# Altium schematic symbol library Actel IGLOOnano FPGA.SchLib: 440 symbols (part 3 of 3)
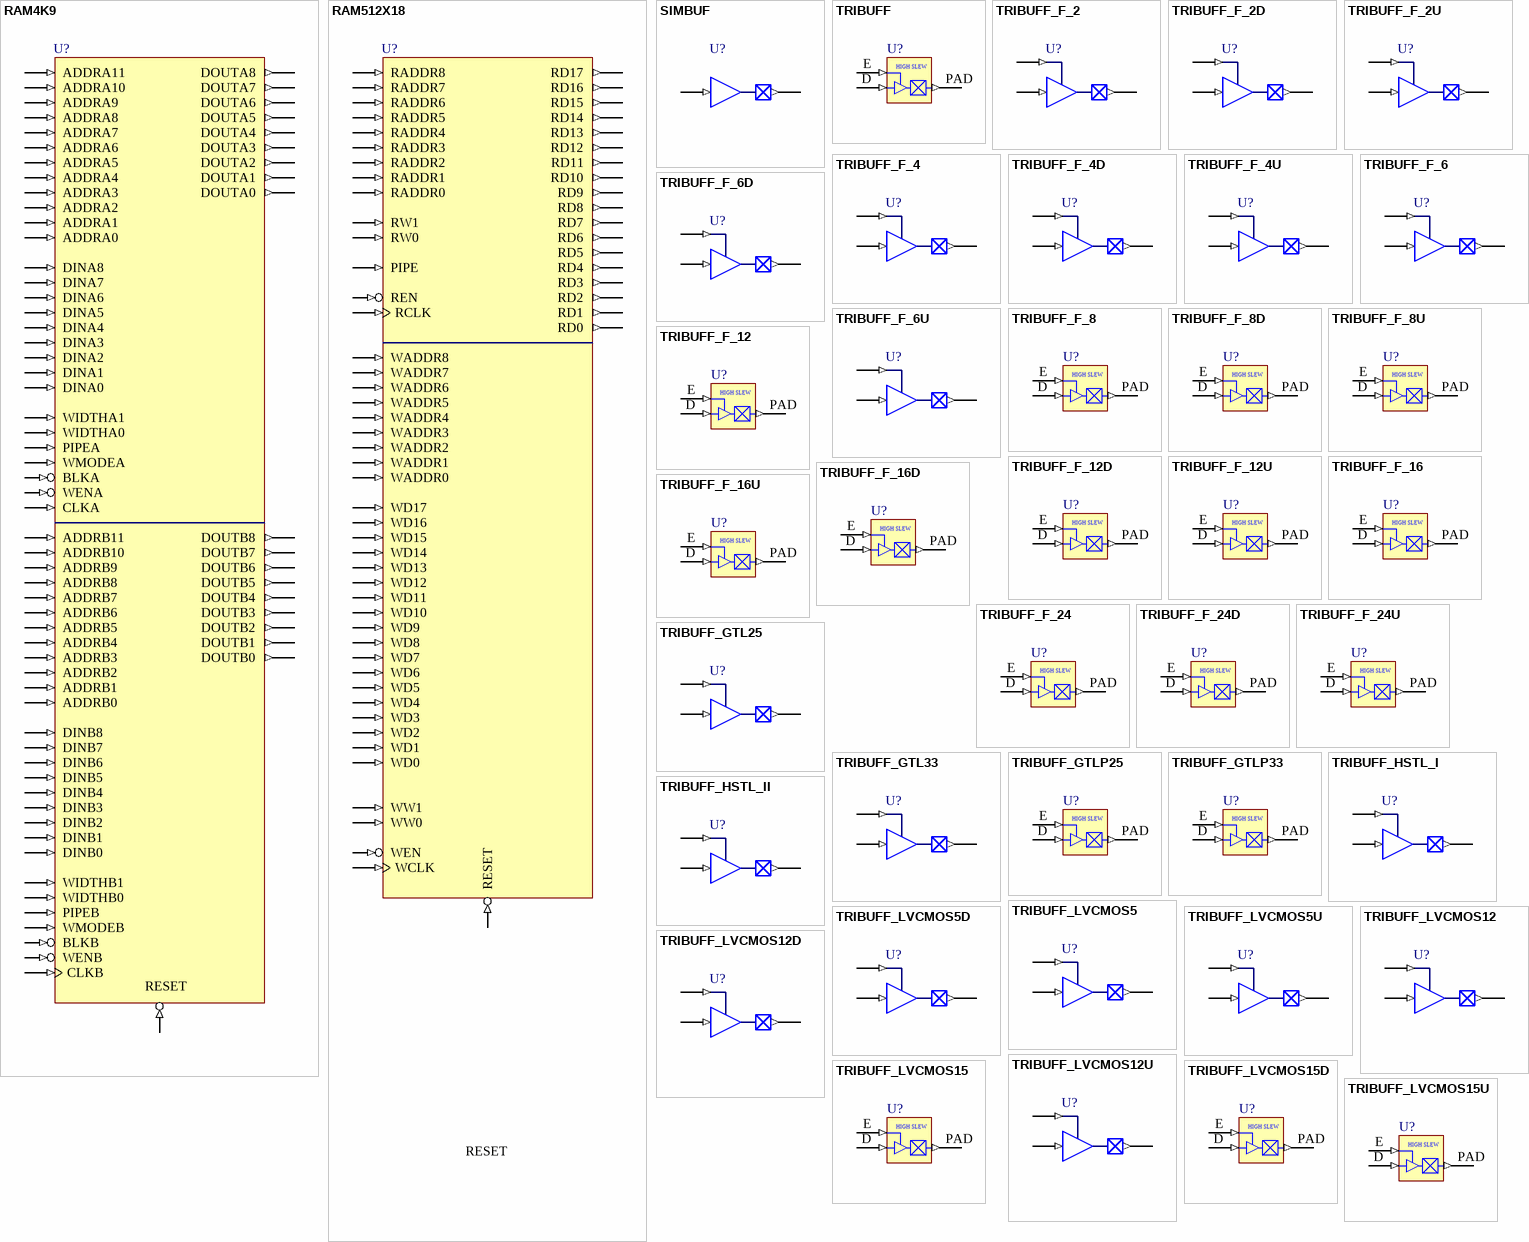
[diagram p13: symbols RAM4K9 to TRIBUFF_LVCMOS15U]

## RAM512X18
designator U?
RAM512X18 is a fully synchronous, two-port RAM with an optional pipeline stage; FPGAVendor: Actel; Published: 25-Oct-2005; Publisher: Altium Limited; HelpURL: http://www.actel.com/documents/pa3_libguide_ug.pdf
pins: PIPE (in), RADDR0 (in), RADDR1 (in), RADDR2 (in), RADDR3 (in), RADDR4 (in), RADDR5 (in), RADDR6 (in), RADDR7 (in), RADDR8 (in), RCLK (in), RD0 (out), RD1 (out), RD2 (out), RD3 (out), RD4 (out), RD5 (out), RD6 (out), RD7 (out), RD8 (out), RD9 (out), RD10 (out), RD11 (out), RD12 (out), RD13 (out), RD14 (out), RD15 (out), RD16 (out), RD17 (out), REN (in), RESET (in), RW0 (in), RW1 (in), WADDR0 (in), WADDR1 (in), WADDR2 (in), WADDR3 (in), WADDR4 (in), WADDR5 (in), WADDR6 (in), WADDR7 (in), WADDR8 (in), WCLK (in), WD0 (in), WD1 (in), WD2 (in), WD3 (in), WD4 (in), WD5 (in), WD6 (in), WD7 (in), WD8 (in), WD9 (in), WD10 (in), WD11 (in), WD12 (in), WD13 (in), WD14 (in), WD15 (in), WD16 (in), WD17 (in), WEN (in), WW0 (in), WW1 (in)

## SIMBUF
designator U?
VIRTUAL I/O; FPGAVendor: Actel; Published: 7-Sep-2009; Publisher: Altium Limited; HelpURL: http://www.actel.com/documents/pa3_libguide_ug.pdf
pins: D (in), PAD (out)

## TRIBUFF
designator U?
Tristate Output, High Slew; FPGAVendor: Actel; Published: 28-Jan-2003; LatestRevisionNote: 5/09/2003; DatasheetVersion: Jun-2002; Publisher: Altium Limited; HelpURL: http://www.actel.com/documents/pa3_libguide_ug.pdf
pins: D (in), E (in), PAD (out)
text: HIGH SLEW

## TRIBUFF_F_2
designator U?
Tri-state output with high slew; FPGAVendor: Actel; Published: 25-Oct-2005; Publisher: Altium Limited; HelpURL: http://www.actel.com/documents/pa3_libguide_ug.pdf
pins: D (in), E (in), PAD (out)

## TRIBUFF_F_2D
designator U?
Tri-state output with high slew; FPGAVendor: Actel; Published: 25-Oct-2005; Publisher: Altium Limited; HelpURL: http://www.actel.com/documents/pa3_libguide_ug.pdf
pins: D (in), E (in), PAD (out)

## TRIBUFF_F_2U
designator U?
Tri-state output with high slew; FPGAVendor: Actel; Published: 25-Oct-2005; Publisher: Altium Limited; HelpURL: http://www.actel.com/documents/pa3_libguide_ug.pdf
pins: D (in), E (in), PAD (out)

## TRIBUFF_F_4
designator U?
Tri-state output with high slew; FPGAVendor: Actel; Published: 25-Oct-2005; Publisher: Altium Limited; HelpURL: http://www.actel.com/documents/pa3_libguide_ug.pdf
pins: D (in), E (in), PAD (out)

## TRIBUFF_F_4D
designator U?
Tri-state output with high slew; FPGAVendor: Actel; Published: 25-Oct-2005; Publisher: Altium Limited; HelpURL: http://www.actel.com/documents/pa3_libguide_ug.pdf
pins: D (in), E (in), PAD (out)

## TRIBUFF_F_4U
designator U?
Tri-state output with high slew; FPGAVendor: Actel; Published: 25-Oct-2005; Publisher: Altium Limited; HelpURL: http://www.actel.com/documents/pa3_libguide_ug.pdf
pins: D (in), E (in), PAD (out)

## TRIBUFF_F_6
designator U?
Tri-state output with high slew; FPGAVendor: Actel; Published: 25-Oct-2005; Publisher: Altium Limited; HelpURL: http://www.actel.com/documents/pa3_libguide_ug.pdf
pins: D (in), E (in), PAD (out)

## TRIBUFF_F_6D
designator U?
Tri-state output with high slew; FPGAVendor: Actel; Published: 25-Oct-2005; Publisher: Altium Limited; HelpURL: http://www.actel.com/documents/pa3_libguide_ug.pdf
pins: D (in), E (in), PAD (out)

## TRIBUFF_F_6U
designator U?
Tri-state output with high slew; FPGAVendor: Actel; Published: 25-Oct-2005; Publisher: Altium Limited; HelpURL: http://www.actel.com/documents/pa3_libguide_ug.pdf
pins: D (in), E (in), PAD (out)

## TRIBUFF_F_8
designator U?
Tristate output with high slew and 1x drive strength; FPGAVendor: Actel; Published: 28-Jan-2003; LatestRevisionNote: 5/09/2003; DatasheetVersion: Jun-2002; Publisher: Altium Limited; HelpURL: http://www.actel.com/documents/pa3_libguide_ug.pdf
pins: D (in), E (in), PAD (out)
text: HIGH SLEW

## TRIBUFF_F_8D
designator U?
Tristate output with high slew and 1x drive strength, pull-down resistor; FPGAVendor: Actel; Published: 28-Jan-2003; LatestRevisionNote: 5/09/2003; DatasheetVersion: Jun-2002; Publisher: Altium Limited; HelpURL: http://www.actel.com/documents/pa3_libguide_ug.pdf
pins: D (in), E (in), PAD (out)
text: HIGH SLEW

## TRIBUFF_F_8U
designator U?
Tristate output with high slew and 1x drive strength, pull-up resistor; FPGAVendor: Actel; Published: 28-Jan-2003; LatestRevisionNote: 5/09/2003; DatasheetVersion: Jun-2002; Publisher: Altium Limited; HelpURL: http://www.actel.com/documents/pa3_libguide_ug.pdf
pins: D (in), E (in), PAD (out)
text: HIGH SLEW

## TRIBUFF_F_12
designator U?
Tristate output with high slew and 2x drive strength; FPGAVendor: Actel; Published: 28-Jan-2003; LatestRevisionNote: 5/09/2003; DatasheetVersion: Jun-2002; Publisher: Altium Limited; HelpURL: http://www.actel.com/documents/pa3_libguide_ug.pdf
pins: D (in), E (in), PAD (out)
text: HIGH SLEW

## TRIBUFF_F_12D
designator U?
Tristate output with high slew and 2x drive strength, pull-down resistor; FPGAVendor: Actel; Published: 28-Jan-2003; LatestRevisionNote: 5/09/2003; DatasheetVersion: Jun-2002; Publisher: Altium Limited; HelpURL: http://www.actel.com/documents/pa3_libguide_ug.pdf
pins: D (in), E (in), PAD (out)
text: HIGH SLEW

## TRIBUFF_F_12U
designator U?
Tristate output with high slew and 2x drive strength, pull-up resistor; FPGAVendor: Actel; Published: 28-Jan-2003; LatestRevisionNote: 5/09/2003; DatasheetVersion: Jun-2002; Publisher: Altium Limited; HelpURL: http://www.actel.com/documents/pa3_libguide_ug.pdf
pins: D (in), E (in), PAD (out)
text: HIGH SLEW

## TRIBUFF_F_16
designator U?
Tristate output with high slew and 3x drive strength; FPGAVendor: Actel; Published: 28-Jan-2003; LatestRevisionNote: 5/09/2003; DatasheetVersion: Jun-2002; Publisher: Altium Limited; HelpURL: http://www.actel.com/documents/pa3_libguide_ug.pdf
pins: D (in), E (in), PAD (out)
text: HIGH SLEW

## TRIBUFF_F_16D
designator U?
Tristate output with high slew and 3x drive strength, pull-down resistor; FPGAVendor: Actel; Published: 28-Jan-2003; LatestRevisionNote: 5/09/2003; DatasheetVersion: Jun-2002; Publisher: Altium Limited; HelpURL: http://www.actel.com/documents/pa3_libguide_ug.pdf
pins: D (in), E (in), PAD (out)
text: HIGH SLEW

## TRIBUFF_F_16U
designator U?
Tristate output with high slew and 3x drive strength, pull-up resistor; FPGAVendor: Actel; Published: 28-Jan-2003; LatestRevisionNote: 5/09/2003; DatasheetVersion: Jun-2002; Publisher: Altium Limited; HelpURL: http://www.actel.com/documents/pa3_libguide_ug.pdf
pins: D (in), E (in), PAD (out)
text: HIGH SLEW

## TRIBUFF_F_24
designator U?
Tristate output with high slew and 4x drive strength; FPGAVendor: Actel; Published: 28-Jan-2003; LatestRevisionNote: 5/09/2003; DatasheetVersion: Jun-2002; Publisher: Altium Limited; HelpURL: http://www.actel.com/documents/pa3_libguide_ug.pdf
pins: D (in), E (in), PAD (out)
text: HIGH SLEW

## TRIBUFF_F_24D
designator U?
Tristate output with high slew and 4x drive strength, pull-down resistor; FPGAVendor: Actel; Published: 28-Jan-2003; LatestRevisionNote: 5/09/2003; DatasheetVersion: Jun-2002; Publisher: Altium Limited; HelpURL: http://www.actel.com/documents/pa3_libguide_ug.pdf
pins: D (in), E (in), PAD (out)
text: HIGH SLEW

## TRIBUFF_F_24U
designator U?
Tristate output with high slew and 4x drive strength, pull-up resistor; FPGAVendor: Actel; Published: 28-Jan-2003; LatestRevisionNote: 5/09/2003; DatasheetVersion: Jun-2002; Publisher: Altium Limited; HelpURL: http://www.actel.com/documents/pa3_libguide_ug.pdf
pins: D (in), E (in), PAD (out)
text: HIGH SLEW

## TRIBUFF_GTL25
designator U?
GTLP tri-state output buffer with 2.5 CMOS voltage level; FPGAVendor: Actel; Published: 7-Sep-2009; Publisher: Altium Limited; HelpURL: http://www.actel.com/documents/pa3_libguide_ug.pdf
pins: D (in), E (in), PAD (out)

## TRIBUFF_GTL33
designator U?
GTLP tri-state output buffer with 3.3 CMOS voltage level; FPGAVendor: Actel; Published: 7-Sep-2009; Publisher: Altium Limited; HelpURL: http://www.actel.com/documents/pa3_libguide_ug.pdf
pins: D (in), E (in), PAD (out)

## TRIBUFF_GTLP25
designator U?
GTLP Tristate output with 2.5 CMOS voltage level; FPGAVendor: Actel; Published: 28-Jan-2003; LatestRevisionNote: 5/09/2003; DatasheetVersion: Jun-2002; Publisher: Altium Limited; HelpURL: http://www.actel.com/documents/pa3_libguide_ug.pdf
pins: D (in), E (in), PAD (out)
text: HIGH SLEW

## TRIBUFF_GTLP33
designator U?
GTLP Tristate output with 3.3 CMOS voltage level; FPGAVendor: Actel; Published: 28-Jan-2003; LatestRevisionNote: 5/09/2003; DatasheetVersion: Jun-2002; Publisher: Altium Limited; HelpURL: http://www.actel.com/documents/pa3_libguide_ug.pdf
pins: D (in), E (in), PAD (out)
text: HIGH SLEW

## TRIBUFF_HSTL_I
designator U?
HSTL class I tri-state output buffer; FPGAVendor: Actel; Published: 7-Sep-2009; Publisher: Altium Limited; HelpURL: http://www.actel.com/documents/pa3_libguide_ug.pdf
pins: D (in), E (in), PAD (out)

## TRIBUFF_HSTL_II
designator U?
HSTL class II tri-state output buffer; FPGAVendor: Actel; Published: 7-Sep-2009; Publisher: Altium Limited; HelpURL: http://www.actel.com/documents/pa3_libguide_ug.pdf
pins: D (in), E (in), PAD (out)

## TRIBUFF_LVCMOS5
designator U?
LVCMOS5 Tri-State Output with 5.0 Voltage Level; FPGAVendor: Actel; Published: 25-Oct-2005; Publisher: Altium Limited; HelpURL: http://www.actel.com/documents/pa3_libguide_ug.pdf
pins: D (in), E (in), PAD (out)

## TRIBUFF_LVCMOS5D
designator U?
LVCMOS5 Tri-State Output with 5.0 Voltage Level, Pull-Down Resistor; FPGAVendor: Actel; Published: 25-Oct-2005; Publisher: Altium Limited; HelpURL: http://www.actel.com/documents/pa3_libguide_ug.pdf
pins: D (in), E (in), PAD (out)

## TRIBUFF_LVCMOS5U
designator U?
LVCMOS5 Tri-State Output with 1.8 Voltage Level, Pull-Up Resistor; FPGAVendor: Actel; Published: 25-Oct-2005; Publisher: Altium Limited; HelpURL: http://www.actel.com/documents/pa3_libguide_ug.pdf
pins: D (in), E (in), PAD (out)

## TRIBUFF_LVCMOS12
designator U?
LVCMOS12 Tri-State Buffer; FPGAVendor: Actel; Published: 7-Sep-2009; Publisher: Altium Limited; HelpURL: http://www.actel.com/documents/pa3_libguide_ug.pdf
pins: D (in), E (in), PAD (out)

## TRIBUFF_LVCMOS12D
designator U?
LVCMOS12D Tri-State Buffer; FPGAVendor: Actel; Published: 7-Sep-2009; Publisher: Altium Limited; HelpURL: http://www.actel.com/documents/pa3_libguide_ug.pdf
pins: D (in), E (in), PAD (out)

## TRIBUFF_LVCMOS12U
designator U?
LVCMOS12U Tri-State Buffer; FPGAVendor: Actel; Published: 7-Sep-2009; Publisher: Altium Limited; HelpURL: http://www.actel.com/documents/pa3_libguide_ug.pdf
pins: D (in), E (in), PAD (out)

## TRIBUFF_LVCMOS15
designator U?
LVCMOS Tristate output with 1.5 CMOS voltage level; FPGAVendor: Actel; Published: 28-Jan-2003; LatestRevisionNote: 5/09/2003; DatasheetVersion: Jun-2002; Publisher: Altium Limited; HelpURL: http://www.actel.com/documents/pa3_libguide_ug.pdf
pins: D (in), E (in), PAD (out)
text: HIGH SLEW

## TRIBUFF_LVCMOS15D
designator U?
LVCMOS Tristate output with 1.5 CMOS voltage level, pull-down resistor; FPGAVendor: Actel; Published: 28-Jan-2003; LatestRevisionNote: 5/09/2003; DatasheetVersion: Jun-2002; Publisher: Altium Limited; HelpURL: http://www.actel.com/documents/pa3_libguide_ug.pdf
pins: D (in), E (in), PAD (out)
text: HIGH SLEW

## TRIBUFF_LVCMOS15U
designator U?
LVCMOS Tristate output with 1.5 CMOS voltage level, pull-up resistor; FPGAVendor: Actel; Published: 28-Jan-2003; LatestRevisionNote: 5/09/2003; DatasheetVersion: Jun-2002; Publisher: Altium Limited; HelpURL: http://www.actel.com/documents/pa3_libguide_ug.pdf
pins: D (in), E (in), PAD (out)
text: HIGH SLEW

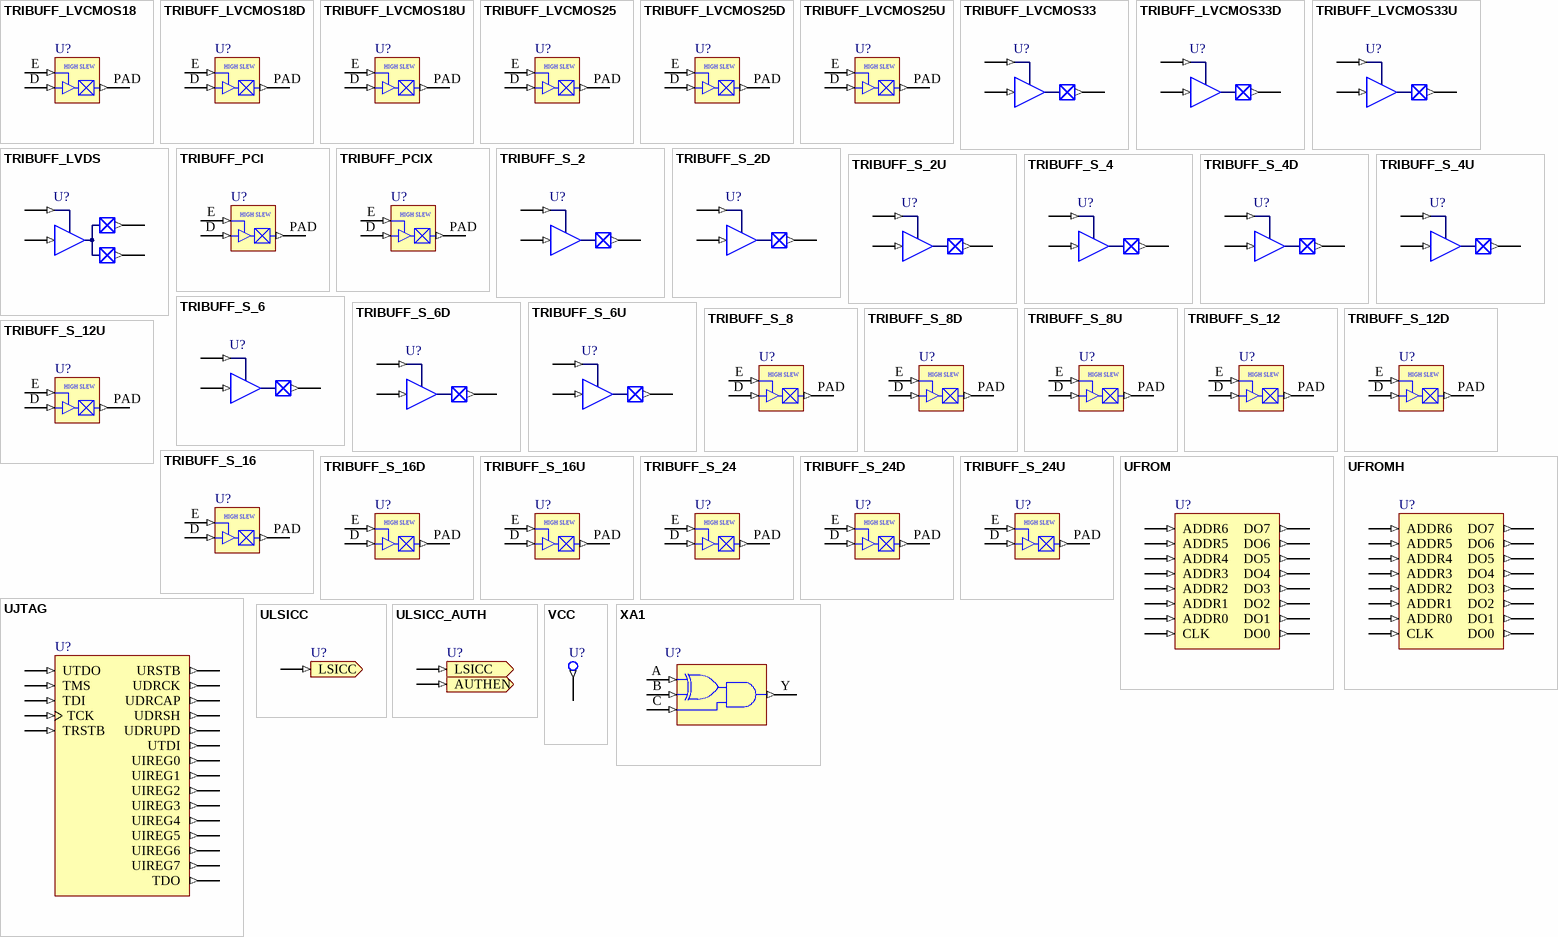
[diagram p10: symbols TRIBUFF_LVCMOS18 to XA1]

## TRIBUFF_LVCMOS18
designator U?
LVCMOS Tristate output with 1.8 CMOS voltage level; FPGAVendor: Actel; Published: 28-Jan-2003; LatestRevisionNote: 5/09/2003; DatasheetVersion: Jun-2002; Publisher: Altium Limited; HelpURL: http://www.actel.com/documents/pa3_libguide_ug.pdf
pins: D (in), E (in), PAD (out)
text: HIGH SLEW

## TRIBUFF_LVCMOS18D
designator U?
LVCMOS Tristate output with 1.8 CMOS voltage level, pull-down resistor; FPGAVendor: Actel; Published: 28-Jan-2003; LatestRevisionNote: 5/09/2003; DatasheetVersion: Jun-2002; Publisher: Altium Limited; HelpURL: http://www.actel.com/documents/pa3_libguide_ug.pdf
pins: D (in), E (in), PAD (out)
text: HIGH SLEW

## TRIBUFF_LVCMOS18U
designator U?
LVCMOS Tristate output with 1.8 CMOS voltage level, pull-up resistor; FPGAVendor: Actel; Published: 28-Jan-2003; LatestRevisionNote: 5/09/2003; DatasheetVersion: Jun-2002; Publisher: Altium Limited; HelpURL: http://www.actel.com/documents/pa3_libguide_ug.pdf
pins: D (in), E (in), PAD (out)
text: HIGH SLEW

## TRIBUFF_LVCMOS25
designator U?
LVCMOS Tristate output with 2.5 CMOS voltage level; FPGAVendor: Actel; Published: 28-Jan-2003; LatestRevisionNote: 5/09/2003; DatasheetVersion: Jun-2002; Publisher: Altium Limited; HelpURL: http://www.actel.com/documents/pa3_libguide_ug.pdf
pins: D (in), E (in), PAD (out)
text: HIGH SLEW

## TRIBUFF_LVCMOS25D
designator U?
LVCMOS Tristate output with 2.5 CMOS voltage level, pull-down resistor; FPGAVendor: Actel; Published: 28-Jan-2003; LatestRevisionNote: 5/09/2003; DatasheetVersion: Jun-2002; Publisher: Altium Limited; HelpURL: http://www.actel.com/documents/pa3_libguide_ug.pdf
pins: D (in), E (in), PAD (out)
text: HIGH SLEW

## TRIBUFF_LVCMOS25U
designator U?
LVCMOS Tristate output with 2.5 CMOS voltage level, pull-up resistor; FPGAVendor: Actel; Published: 28-Jan-2003; LatestRevisionNote: 5/09/2003; DatasheetVersion: Jun-2002; Publisher: Altium Limited; HelpURL: http://www.actel.com/documents/pa3_libguide_ug.pdf
pins: D (in), E (in), PAD (out)
text: HIGH SLEW

## TRIBUFF_LVCMOS33
designator U?
LVCMOS33 Tri-State Output with 1.8 Voltage Level; FPGAVendor: Actel; Published: 25-Oct-2005; Publisher: Altium Limited; HelpURL: http://www.actel.com/documents/pa3_libguide_ug.pdf
pins: D (in), E (in), PAD (out)

## TRIBUFF_LVCMOS33D
designator U?
LVCMOS33 Tri-State Output with 1.8 Voltage Level, Pull-Down Resistor; FPGAVendor: Actel; Published: 25-Oct-2005; Publisher: Altium Limited; HelpURL: http://www.actel.com/documents/pa3_libguide_ug.pdf
pins: D (in), E (in), PAD (out)

## TRIBUFF_LVCMOS33U
designator U?
LVCMOS33 Tri-State Output with 1.8 Voltage Level, Pull-Up Resistor; FPGAVendor: Actel; Published: 25-Oct-2005; Publisher: Altium Limited; HelpURL: http://www.actel.com/documents/pa3_libguide_ug.pdf
pins: D (in), E (in), PAD (out)

## TRIBUFF_LVDS
designator U?
LVDS Tri-State Buffer; FPGAVendor: Actel; Published: 7-Sep-2009; Publisher: Altium Limited; HelpURL: http://www.actel.com/documents/pa3_libguide_ug.pdf
pins: D (in), E (in), PADN (out), PADP (out)

## TRIBUFF_PCI
designator U?
PCI Tristate output; FPGAVendor: Actel; Published: 28-Jan-2003; LatestRevisionNote: 5/09/2003; DatasheetVersion: Jun-2002; Publisher: Altium Limited; HelpURL: http://www.actel.com/documents/pa3_libguide_ug.pdf
pins: D (in), E (in), PAD (out)
text: HIGH SLEW

## TRIBUFF_PCIX
designator U?
PCIX Tristate output; FPGAVendor: Actel; Published: 28-Jan-2003; LatestRevisionNote: 5/09/2003; DatasheetVersion: Jun-2002; Publisher: Altium Limited; HelpURL: http://www.actel.com/documents/pa3_libguide_ug.pdf
pins: D (in), E (in), PAD (out)
text: HIGH SLEW

## TRIBUFF_S_2
designator U?
Tri-state output with low slew; FPGAVendor: Actel; Published: 25-Oct-2005; Publisher: Altium Limited; HelpURL: http://www.actel.com/documents/pa3_libguide_ug.pdf
pins: D (in), E (in), PAD (out)

## TRIBUFF_S_2D
designator U?
Tri-state output with low slew; FPGAVendor: Actel; Published: 25-Oct-2005; Publisher: Altium Limited; HelpURL: http://www.actel.com/documents/pa3_libguide_ug.pdf
pins: D (in), E (in), PAD (out)

## TRIBUFF_S_2U
designator U?
Tri-state output with low slew; FPGAVendor: Actel; Published: 25-Oct-2005; Publisher: Altium Limited; HelpURL: http://www.actel.com/documents/pa3_libguide_ug.pdf
pins: D (in), E (in), PAD (out)

## TRIBUFF_S_4
designator U?
Tri-state output with low slew; FPGAVendor: Actel; Published: 25-Oct-2005; Publisher: Altium Limited; HelpURL: http://www.actel.com/documents/pa3_libguide_ug.pdf
pins: D (in), E (in), PAD (out)

## TRIBUFF_S_4D
designator U?
Tri-state output with low slew; FPGAVendor: Actel; Published: 25-Oct-2005; Publisher: Altium Limited; HelpURL: http://www.actel.com/documents/pa3_libguide_ug.pdf
pins: D (in), E (in), PAD (out)

## TRIBUFF_S_4U
designator U?
Tri-state output with low slew; FPGAVendor: Actel; Published: 25-Oct-2005; Publisher: Altium Limited; HelpURL: http://www.actel.com/documents/pa3_libguide_ug.pdf
pins: D (in), E (in), PAD (out)

## TRIBUFF_S_6
designator U?
Tri-state output with low slew; FPGAVendor: Actel; Published: 25-Oct-2005; Publisher: Altium Limited; HelpURL: http://www.actel.com/documents/pa3_libguide_ug.pdf
pins: D (in), E (in), PAD (out)

## TRIBUFF_S_6D
designator U?
Tri-state output with low slew; FPGAVendor: Actel; Published: 25-Oct-2005; Publisher: Altium Limited; HelpURL: http://www.actel.com/documents/pa3_libguide_ug.pdf
pins: D (in), E (in), PAD (out)

## TRIBUFF_S_6U
designator U?
Tri-state output with low slew; FPGAVendor: Actel; Published: 25-Oct-2005; Publisher: Altium Limited; HelpURL: http://www.actel.com/documents/pa3_libguide_ug.pdf
pins: D (in), E (in), PAD (out)

## TRIBUFF_S_8
designator U?
Tristate output with low slew and 1x drive strength; FPGAVendor: Actel; Published: 28-Jan-2003; LatestRevisionNote: 5/09/2003; DatasheetVersion: Jun-2002; Publisher: Altium Limited; HelpURL: http://www.actel.com/documents/pa3_libguide_ug.pdf
pins: D (in), E (in), PAD (out)
text: HIGH SLEW

## TRIBUFF_S_8D
designator U?
Tristate output with low slew and 1x drive strength, pull-down resistor; FPGAVendor: Actel; Published: 28-Jan-2003; LatestRevisionNote: 5/09/2003; DatasheetVersion: Jun-2002; Publisher: Altium Limited; HelpURL: http://www.actel.com/documents/pa3_libguide_ug.pdf
pins: D (in), E (in), PAD (out)
text: HIGH SLEW

## TRIBUFF_S_8U
designator U?
Tristate output with low slew and 1x drive strength, pull-up resistor; FPGAVendor: Actel; Published: 28-Jan-2003; LatestRevisionNote: 5/09/2003; DatasheetVersion: Jun-2002; Publisher: Altium Limited; HelpURL: http://www.actel.com/documents/pa3_libguide_ug.pdf
pins: D (in), E (in), PAD (out)
text: HIGH SLEW

## TRIBUFF_S_12
designator U?
Tristate output with low slew and 2x drive strength; FPGAVendor: Actel; Published: 28-Jan-2003; LatestRevisionNote: 5/09/2003; DatasheetVersion: Jun-2002; Publisher: Altium Limited; HelpURL: http://www.actel.com/documents/pa3_libguide_ug.pdf
pins: D (in), E (in), PAD (out)
text: HIGH SLEW

## TRIBUFF_S_12D
designator U?
Tristate output with low slew and 2x drive strength, pull-down resistor; FPGAVendor: Actel; Published: 28-Jan-2003; LatestRevisionNote: 5/09/2003; DatasheetVersion: Jun-2002; Publisher: Altium Limited; HelpURL: http://www.actel.com/documents/pa3_libguide_ug.pdf
pins: D (in), E (in), PAD (out)
text: HIGH SLEW

## TRIBUFF_S_12U
designator U?
Tristate output with low slew and 2x drive strength, pull-up resistor; FPGAVendor: Actel; Published: 28-Jan-2003; LatestRevisionNote: 5/09/2003; DatasheetVersion: Jun-2002; Publisher: Altium Limited; HelpURL: http://www.actel.com/documents/pa3_libguide_ug.pdf
pins: D (in), E (in), PAD (out)
text: HIGH SLEW

## TRIBUFF_S_16
designator U?
Tristate output with low slew and 3x drive strength; FPGAVendor: Actel; Published: 28-Jan-2003; LatestRevisionNote: 5/09/2003; DatasheetVersion: Jun-2002; Publisher: Altium Limited; HelpURL: http://www.actel.com/documents/pa3_libguide_ug.pdf
pins: D (in), E (in), PAD (out)
text: HIGH SLEW

## TRIBUFF_S_16D
designator U?
Tristate output with low slew and 3x drive strength, pull-down resistor; FPGAVendor: Actel; Published: 28-Jan-2003; LatestRevisionNote: 5/09/2003; DatasheetVersion: Jun-2002; Publisher: Altium Limited; HelpURL: http://www.actel.com/documents/pa3_libguide_ug.pdf
pins: D (in), E (in), PAD (out)
text: HIGH SLEW

## TRIBUFF_S_16U
designator U?
Tristate output with low slew and 3x drive strength, pull-up resistor; FPGAVendor: Actel; Published: 28-Jan-2003; LatestRevisionNote: 5/09/2003; DatasheetVersion: Jun-2002; Publisher: Altium Limited; HelpURL: http://www.actel.com/documents/pa3_libguide_ug.pdf
pins: D (in), E (in), PAD (out)
text: HIGH SLEW

## TRIBUFF_S_24
designator U?
Tristate output with low slew and 4x drive strength; FPGAVendor: Actel; Published: 28-Jan-2003; LatestRevisionNote: 5/09/2003; DatasheetVersion: Jun-2002; Publisher: Altium Limited; HelpURL: http://www.actel.com/documents/pa3_libguide_ug.pdf
pins: D (in), E (in), PAD (out)
text: HIGH SLEW

## TRIBUFF_S_24D
designator U?
Tristate output with low slew and 4x drive strength, pull-down resistor; FPGAVendor: Actel; Published: 28-Jan-2003; LatestRevisionNote: 5/09/2003; DatasheetVersion: Jun-2002; Publisher: Altium Limited; HelpURL: http://www.actel.com/documents/pa3_libguide_ug.pdf
pins: D (in), E (in), PAD (out)
text: HIGH SLEW

## TRIBUFF_S_24U
designator U?
Tristate output with low slew and 4x drive strength, pull-up resistor; FPGAVendor: Actel; Published: 28-Jan-2003; LatestRevisionNote: 5/09/2003; DatasheetVersion: Jun-2002; Publisher: Altium Limited; HelpURL: http://www.actel.com/documents/pa3_libguide_ug.pdf
pins: D (in), E (in), PAD (out)
text: HIGH SLEW

## UFROM
designator U?
Synchronous Write/Synchronous Read RAM with Registered Output and Parity Generation; FPGAVendor: Actel; Published: 7-Sep-2009; Publisher: Altium Limited; HelpURL: http://www.actel.com/documents/pa3_libguide_ug.pdf
pins: ADDR0 (in), ADDR1 (in), ADDR2 (in), ADDR3 (in), ADDR4 (in), ADDR5 (in), ADDR6 (in), CLK (in), DO0 (out), DO1 (out), DO2 (out), DO3 (out), DO4 (out), DO5 (out), DO6 (out), DO7 (out)

## UFROMH
designator U?
User FlashRom Macro; FPGAVendor: Actel; Published: 7-Sep-2009; Publisher: Altium Limited; HelpURL: http://www.actel.com/documents/pa3_libguide_ug.pdf
pins: ADDR0 (in), ADDR1 (in), ADDR2 (in), ADDR3 (in), ADDR4 (in), ADDR5 (in), ADDR6 (in), CLK (in), DO0 (out), DO1 (out), DO2 (out), DO3 (out), DO4 (out), DO5 (out), DO6 (out), DO7 (out)

## UJTAG
designator U?
The UJTAG macro is a special purpose macro. It is provided to allow users access to the user JTAG circuitry on board the chip.; FPGAVendor: Actel; Published: 25-Oct-2005; Publisher: Altium Limited; HelpURL: http://www.actel.com/documents/pa3_libguide_ug.pdf
pins: TCK (in), TDI (in), TDO (out), TMS (in), TRSTB (in), UDRCAP (out), UDRCK (out), UDRSH (out), UDRUPD (out), UIREG0 (out), UIREG1 (out), UIREG2 (out), UIREG3 (out), UIREG4 (out), UIREG5 (out), UIREG6 (out), UIREG7 (out), URSTB (out), UTDI (out), UTDO (in)

## ULSICC
designator U?
Low Standby ICC Configuration Macro; FPGAVendor: Actel; Published: 7-Sep-2009; Publisher: Altium Limited; HelpURL: http://www.actel.com/documents/pa3_libguide_ug.pdf
pins: LSICC (in)

## ULSICC_AUTH
designator U?
Low Standby ICC Configuration Macro; FPGAVendor: Actel; Published: 7-Sep-2009; Publisher: Altium Limited; HelpURL: http://www.actel.com/documents/pa3_libguide_ug.pdf
pins: AUTHEN (in), LSICC (in)

## VCC
designator U?
Power; FPGAVendor: Actel; Published: 17/04/2002 3:26:26 PM; LatestRevisionNote: 5/09/2003; DatasheetVersion: Sep-2000; Publisher: Altium Limited; HelpURL: http://www.actel.com/documents/pa3_libguide_ug.pdf
pins: Y (out)

## XA1
designator U?
3-Input XOR-AND; FPGAVendor: Actel; Published: 17/04/2002 3:26:26 PM; LatestRevisionNote: 5/09/2003; DatasheetVersion: Sep-2000; Publisher: Altium Limited; HelpURL: http://www.actel.com/documents/pa3_libguide_ug.pdf
pins: A (in), B (in), C (in), Y (out)

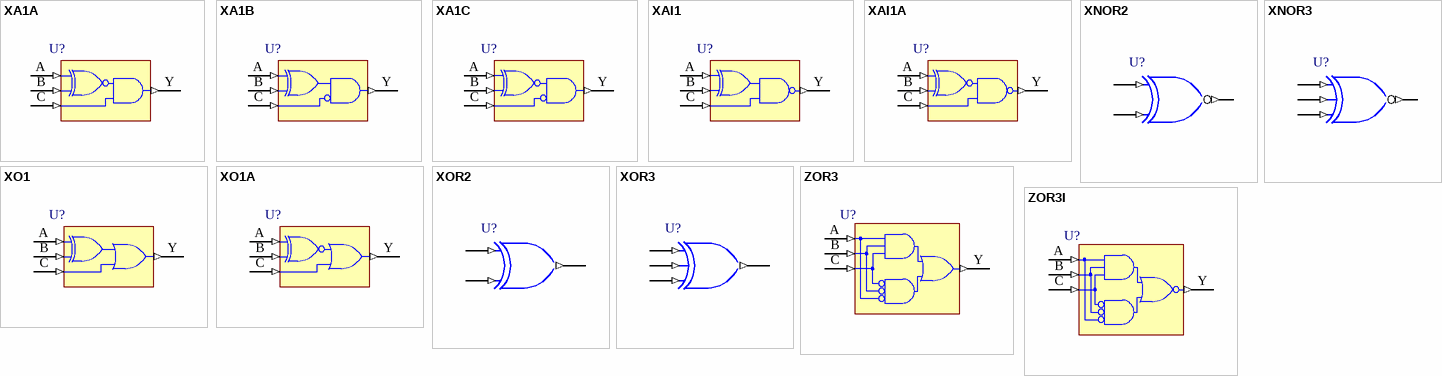
[diagram p11: symbols XA1A to ZOR3I]

## XA1A
designator U?
3-Input XNOR-AND; FPGAVendor: Actel; Published: 17/04/2002 3:26:26 PM; LatestRevisionNote: 5/09/2003; DatasheetVersion: Sep-2000; Publisher: Altium Limited; HelpURL: http://www.actel.com/documents/pa3_libguide_ug.pdf
pins: A (in), B (in), C (in), Y (out)

## XA1B
designator U?
3-Input XNOR-AND with Active-Low C-Input; FPGAVendor: Actel; Published: 17/04/2002 3:26:26 PM; LatestRevisionNote: 5/09/2003; DatasheetVersion: Sep-2000; Publisher: Altium Limited; HelpURL: http://www.actel.com/documents/pa3_libguide_ug.pdf
pins: A (in), B (in), C (in), Y (out)

## XA1C
designator U?
3-Input XNOR-AND with Active-Low C-Input; FPGAVendor: Actel; Published: 17/04/2002 3:26:26 PM; LatestRevisionNote: 5/09/2003; DatasheetVersion: Sep-2000; Publisher: Altium Limited; HelpURL: http://www.actel.com/documents/pa3_libguide_ug.pdf
pins: A (in), B (in), C (in), Y (out)

## XAI1
designator U?
3-Input XNOR-NAND; FPGAVendor: Actel; Published: 17/04/2002 3:26:26 PM; LatestRevisionNote: 5/09/2003; DatasheetVersion: Sep-2000; Publisher: Altium Limited; HelpURL: http://www.actel.com/documents/pa3_libguide_ug.pdf
pins: A (in), B (in), C (in), Y (out)

## XAI1A
designator U?
3-Input XNOR-NAND; FPGAVendor: Actel; Published: 17/04/2002 3:26:26 PM; LatestRevisionNote: 5/09/2003; DatasheetVersion: Sep-2000; Publisher: Altium Limited; HelpURL: http://www.actel.com/documents/pa3_libguide_ug.pdf
pins: A (in), B (in), C (in), Y (out)

## XNOR2
designator U?
2- Input XNOR; FPGAVendor: Actel; Published: 17/04/2002 3:26:26 PM; LatestRevisionNote: 5/09/2003; DatasheetVersion: Sep-2000; Publisher: Altium Limited; HelpURL: http://www.actel.com/documents/pa3_libguide_ug.pdf
pins: A (in), B (in), Y (out)

## XNOR3
designator U?
3-Input XNOR; FPGAVendor: Actel; Published: 17/04/2002 3:26:26 PM; LatestRevisionNote: 5/09/2003; DatasheetVersion: Sep-2000; Publisher: Altium Limited; HelpURL: http://www.actel.com/documents/pa3_libguide_ug.pdf
pins: A (in), B (in), C (in), Y (out)

## XO1
designator U?
3-Input XOR-OR; FPGAVendor: Actel; Published: 17/04/2002 3:26:26 PM; LatestRevisionNote: 5/09/2003; DatasheetVersion: Sep-2000; Publisher: Altium Limited; HelpURL: http://www.actel.com/documents/pa3_libguide_ug.pdf
pins: A (in), B (in), C (in), Y (out)

## XO1A
designator U?
3-Input XNOR-OR; FPGAVendor: Actel; Published: 17/04/2002 3:26:26 PM; LatestRevisionNote: 5/09/2003; DatasheetVersion: Sep-2000; Publisher: Altium Limited; HelpURL: http://www.actel.com/documents/pa3_libguide_ug.pdf
pins: A (in), B (in), C (in), Y (out)

## XOR2
designator U?
2-Input XOR; FPGAVendor: Actel; Published: 17/04/2002 3:26:26 PM; LatestRevisionNote: 5/09/2003; DatasheetVersion: Sep-2000; Publisher: Altium Limited; HelpURL: http://www.actel.com/documents/pa3_libguide_ug.pdf
pins: A (in), B (in), Y (out)

## XOR3
designator U?
3-Input XOR; FPGAVendor: Actel; Published: 17/04/2002 3:26:26 PM; LatestRevisionNote: 5/09/2003; DatasheetVersion: Sep-2000; Publisher: Altium Limited; HelpURL: http://www.actel.com/documents/pa3_libguide_ug.pdf
pins: A (in), B (in), C (in), Y (out)

## ZOR3
designator U?
3-Input Function; FPGAVendor: Actel; Published: 17/04/2002 3:26:26 PM; LatestRevisionNote: 5/09/2003; DatasheetVersion: Sep-2000; Publisher: Altium Limited; HelpURL: http://www.actel.com/documents/pa3_libguide_ug.pdf
pins: A (in), B (in), C (in), Y (out)

## ZOR3I
designator U?
3-Input Function; FPGAVendor: Actel; Published: 17/04/2002 3:26:26 PM; LatestRevisionNote: 5/09/2003; DatasheetVersion: Sep-2000; Publisher: Altium Limited; HelpURL: http://www.actel.com/documents/pa3_libguide_ug.pdf
pins: A (in), B (in), C (in), Y (out)